# Altium schematic symbol library ASI_CAN_Converter.SCHLIB: 32 symbols
Pins are listed as number, name and electrical type; pins without a type are passive.

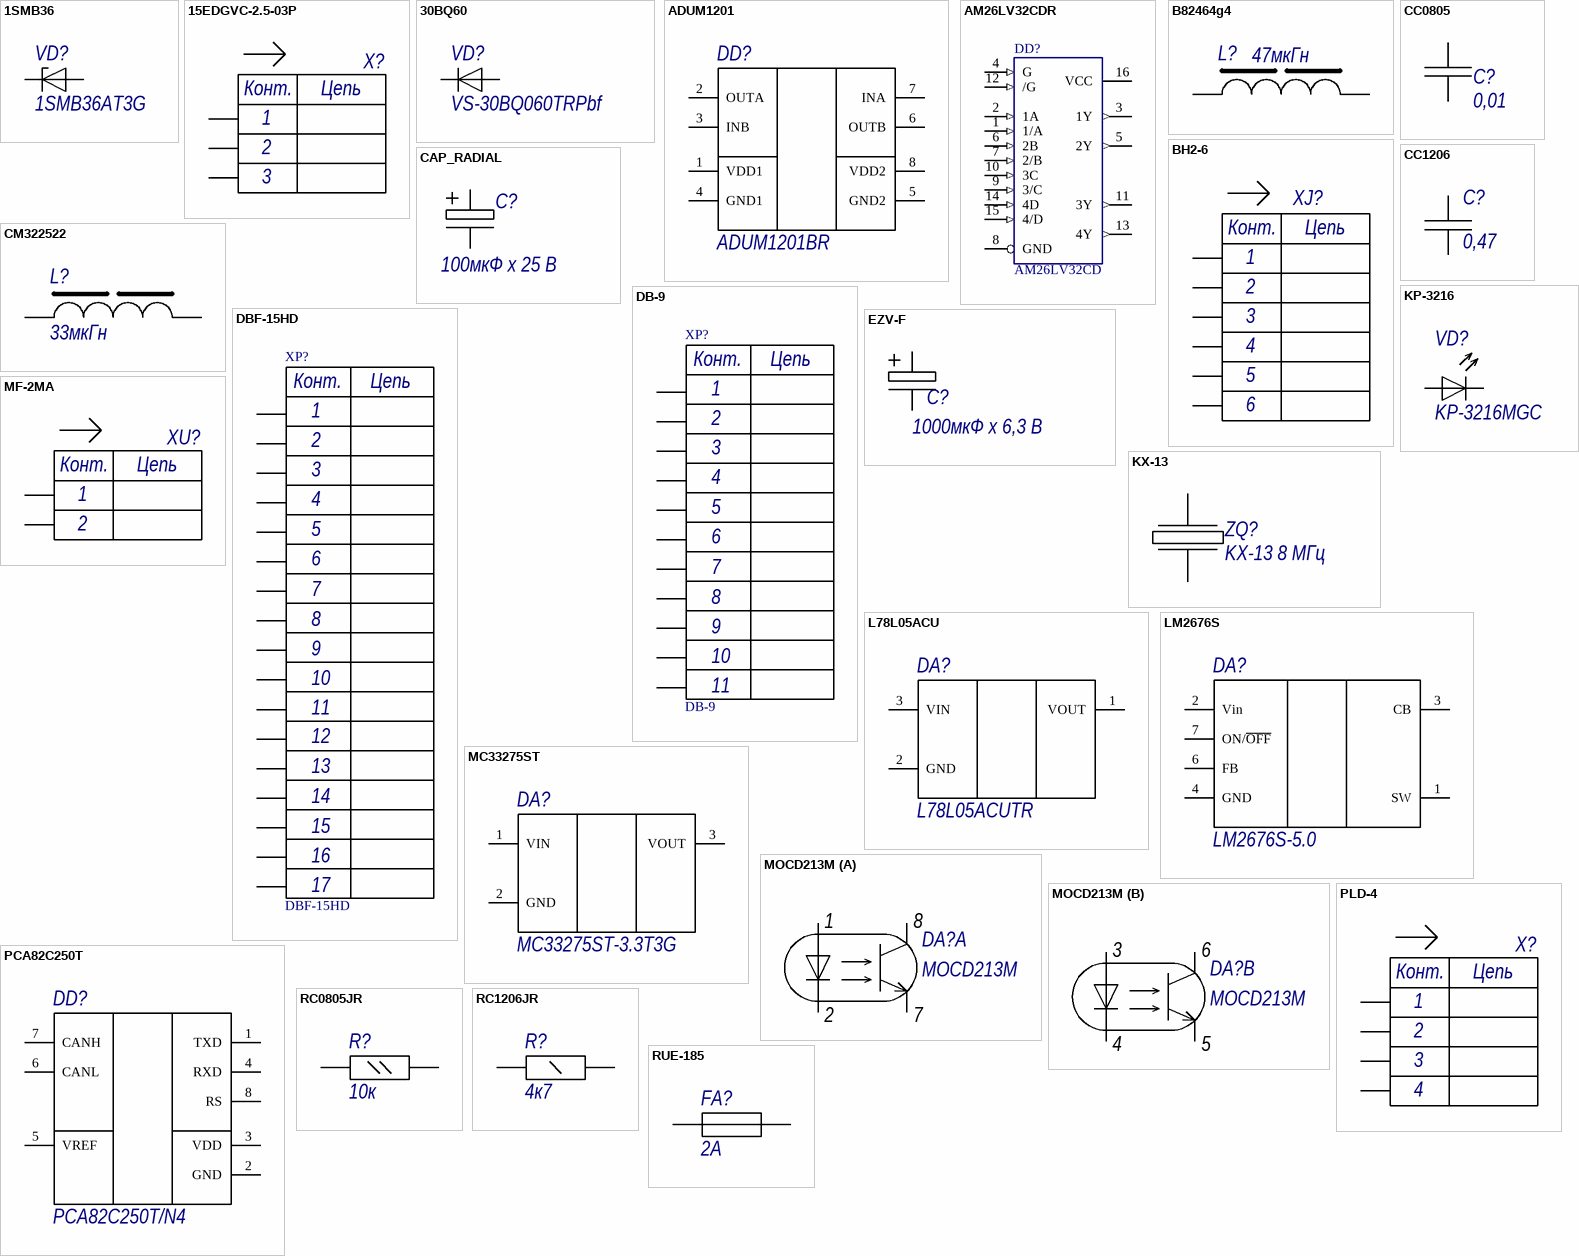
[diagram p0: symbols 1SMB36 to RUE-185]

## 1SMB36
designator VD?, comment 1SMB36AT3G
Диод защитный 600 Вт 36 В; Manufacturer: On Semi.; PackageName: SMB; ComponentType: Стабилитрон; ComponentName: 1SMB36AT3G
footprint SMB
pins: 1 K "Катод", 2 A "Анод"

## 15EDGVC-2.5-03P
designator X?  (value not drawn)
Клеммник разъемный прямой; Manufacturer: DEGSON; ComponentType: Клеммник разъемный; ComponentName: 15EDGVC-2.5-03P
footprint 15EDGVC-2.5-03P
pins: 1, 2, 3
text: Конт.; Цепь

## 30BQ60
designator VD?, comment VS-30BQ060TRPbf
Диод Шотки 60 В 3 А; Manufacturer: Vishay; PackageName: SMC; ComponentType: Диод; ComponentName: VS-30BQ060TRPbf
footprint SMC
pins: 1 K "Катод", 2 A "Анод"

## ADUM1201
designator DD?, comment ADUM1201BR
Изолятор цифрового сигнала; Manufacturer: Analog Dev.; PackageName: SO-8; ComponentType: Микросхема; ComponentName: ADUM1201BR
footprint SO-8
pins: 1 VDD1, 2 OUTA, 3 INB, 4 GND1, 5 GND2, 6 OUTB, 7 INA, 8 VDD2

## AM26LV32CDR
designator DD?, comment AM26LV32CD
=ComponentName; ComponentName: AM26LV32CD; ComponentType: Микросхема
footprint SO16_N (SOIC, 16-Leads, Body 9.9x3.9mm, Pitch 1.27mm, IPC Medium Density)
pins: 1 1/A (in), 2 1A (in), 3 1Y (out), 4 G (in), 5 2Y (out), 6 2B (in), 7 2/B (in), 8 GND (power), 9 3/C (in), 10 3C (in), 11 3Y (out), 12 /G (in), 13 4Y (out), 14 4D (in), 15 4/D (in), 16 VCC (power)

## B82464g4
designator L?, comment 47мкГн
Силовой дроссель; Manufacturer: Epcos; ComponentName: B82464-G4473-M; ComponentType: Дроссель; Value: 47мкГн
footprint B82464g4
pins: 1, 2

## BH2-6
designator XJ?  (value not drawn)
Вилка на плату, шаг 2.0мм; ComponentType: Разъем; ComponentName: BH2-6
footprint BH2-6 (Вилка 6 контактов на плату, шаг 2мм)
pins: 1, 2, 3, 4, 5, 6
text: Конт.; Цепь

## CAP_RADIAL
designator C?, comment 100мкФ x 25 В
Выводные электролитические конденсаторы; Manufacturer: HITANO; Accuracy: 20%; CVoltage: 25 В; ComponentName: ECR; ComponentType: Конденсатор электролитический; Value: 100мкФ
footprint C_D5/F2.0_V
footprint C_D6.5/F2.5_V (Конденсатор, диаметр корпуса 6.5мм, межвыводное расстояние 2.5мм, вертикальное положение)
footprint C_D8/F3.5_V
footprint C_D10/F5.0_V
footprint C_D13/F5.0_V (Конденсатор 13х21x5, d=0.6)
pins: 1, 2

## CC0805
designator C?, comment 0,01
Конденсатор; Manufacturer: YAGEO; Accuracy: 10%; CVoltage: 50 В; TC Material: X7R; ComponentName: СС0805; PackageName: 0805; ComponentType: Конденсатор; Value: 0,01
footprint 0805
footprint 0805_A
pins: 1, 2

## CC1206
designator C?, comment 0,47
Manufacturer: YAGEO; Accuracy: 10%; CVoltage: 50 В; TC Material: X7R; ComponentName: СС1206; PackageName: 1206; ComponentType: Конденсатор; Value: 0,47
footprint 1206
footprint 1206_A
pins: 1, 2

## CM322522
designator L?, comment 33мкГн
Manufacturer: Bourns; ComponentName: CM322522-330KL; ComponentType: Дроссель; Value: 33мкГн
footprint CM322522
pins: 1, 2

## DB-9
designator XP?
Connector DB-9; ComponentName: DB-9; ComponentType: Разъём
footprint DB-9M
pins: 1, 2, 3, 4, 5, 6, 7, 8, 9, 10, 11
text: Конт.; Цепь

## DBF-15HD
designator XP?
Connector DBF-15HD; ComponentName: DBF-15HD; ComponentType: Разъём
footprint DBF15 HD
pins: 1, 2, 3, 4, 5, 6, 7, 8, 9, 10, 11, 12, 13, 14, 15, 16, 17
text: Конт.; Цепь

## EZV-F
designator C?, comment 1000мкФ x 6,3 В
Конденсатор электролитический; Manufacturer: HITANO; Accuracy: 20%; CVoltage: 6,3 В; ComponentName: EZV-F; ComponentType: Конденсатор электролитический; Value: 1000мкФ
footprint ELCAP_SIZE_F
pins: 1, 2

## KP-3216
designator VD?, comment KP-3216MGC
Светодиод; Manufacturer: Kingbright; ComponentType: Светодиод; ComponentName: KP-3216MGC
footprint LED3216
pins: 1 A "Анод", 2 K "Катод"

## KX-13
designator ZQ?, comment KX-13 8 МГц
Резонатор кварцевый; Manufacturer: Geyer; ComponentType: Резонатор кварцевый; ComponentName: KX-13 8 МГц
footprint KX-13; pin to pad 2>3
pins: 1, 2

## L78L05ACU
designator DA?, comment L78L05ACUTR
Линейный стабилизатор напряжения; Manufacturer: STM; PackageName: SOT-89; ComponentType: Микросхема; ComponentName: L78L05ACUTR
footprint SOT-89
pins: 1 VOUT, 2 GND, 3 VIN

## LM2676S
designator DA?, comment LM2676S-5.0
понижающи регулятор 3 А; Manufacturer: Texas Instr.; PackageName: DDPAK; ComponentType: Микросхема; ComponentName: LM2676S-5.0
footprint DDPAK
pins: 1 SW, 2 Vin, 3 CB, 4 GND, 6 FB, 7 ON/~{OFF}

## MC33275ST
designator DA?, comment MC33275ST-3.3T3G
Линейный стабилизатор напряжения; Manufacturer: ON Semi.; PackageName: SOT-223; ComponentType: Микросхема; ComponentName: MC33275ST-3.3T3G
footprint SOT-223_2
pins: 1 VIN, 2 GND, 3 VOUT

## MF-2MA
designator XU?  (value not drawn)
Разъем, Mini-Fit; ComponentType: Разъем; ComponentName: MF-2MA
footprint MF-2MA
pins: 1, 2
text: Конт.; Цепь

## MOCD213M
designator DA?
Оптопара 2 канала; Manufacturer: Fairchild; PackageName: SO-8; ComponentType: Микросхема; ComponentName: MOCD213M
footprint SO-8
part A pins: 1 ANODE1 "Анод", 2 CATHODE1 "Катод", 7 E1 "Эмиттер", 8 C1 "Коллектор"
part B pins: 3 ANODE2 "Анод", 4 CATHODE2 "Катод", 5 E2 "Эмиттер", 6 C2 "Коллектор"

## PCA82C250T
designator DD?, comment PCA82C250T/N4
Интерфейс физического уровня CAN; Manufacturer: NXP; PackageName: SO-8; ComponentType: Микросхема; ComponentName: PCA82C250T/N4
footprint SO-8
pins: 1 TXD, 2 GND, 3 VDD, 4 RXD, 5 VREF, 6 CANL, 7 CANH, 8 RS

## PLD-4
designator X?  (value not drawn)
Разъем, вилка на плату двухрядная, шаг 2.54мм; ComponentType: Разъем; ComponentName: PLD-4
footprint PLD-4 (Разъем)
pins: 1, 2, 3, 4
text: Конт.; Цепь

## RC0805JR
designator R?, comment 10к
Резистор общего назначения 5%; Manufacturer: YAGEO; ComponentName: RC0805JR; PackageName: 0805; ComponentType: Резистор; Accuracy: 5%; Value: 10к
footprint 0805
footprint 0805_A
pins: 1, 2

## RC1206JR
designator R?, comment 4к7
Резистор общего назначения 5%; Manufacturer: YAGEO; ComponentName: RC1206JR; PackageName: 1206; ComponentType: Резистор; Accuracy: 5%; Value: 4к7
footprint 1206
footprint 1206_A
pins: 1, 2

## RUE-185
designator FA?, comment 2А
Предохранитель 3,7 А 30 В; Manufacturer: Tyco; ComponentName: RUEF185; ComponentType: Предохранитель; Value: 2А
footprint RUE-185
pins: 1, 2

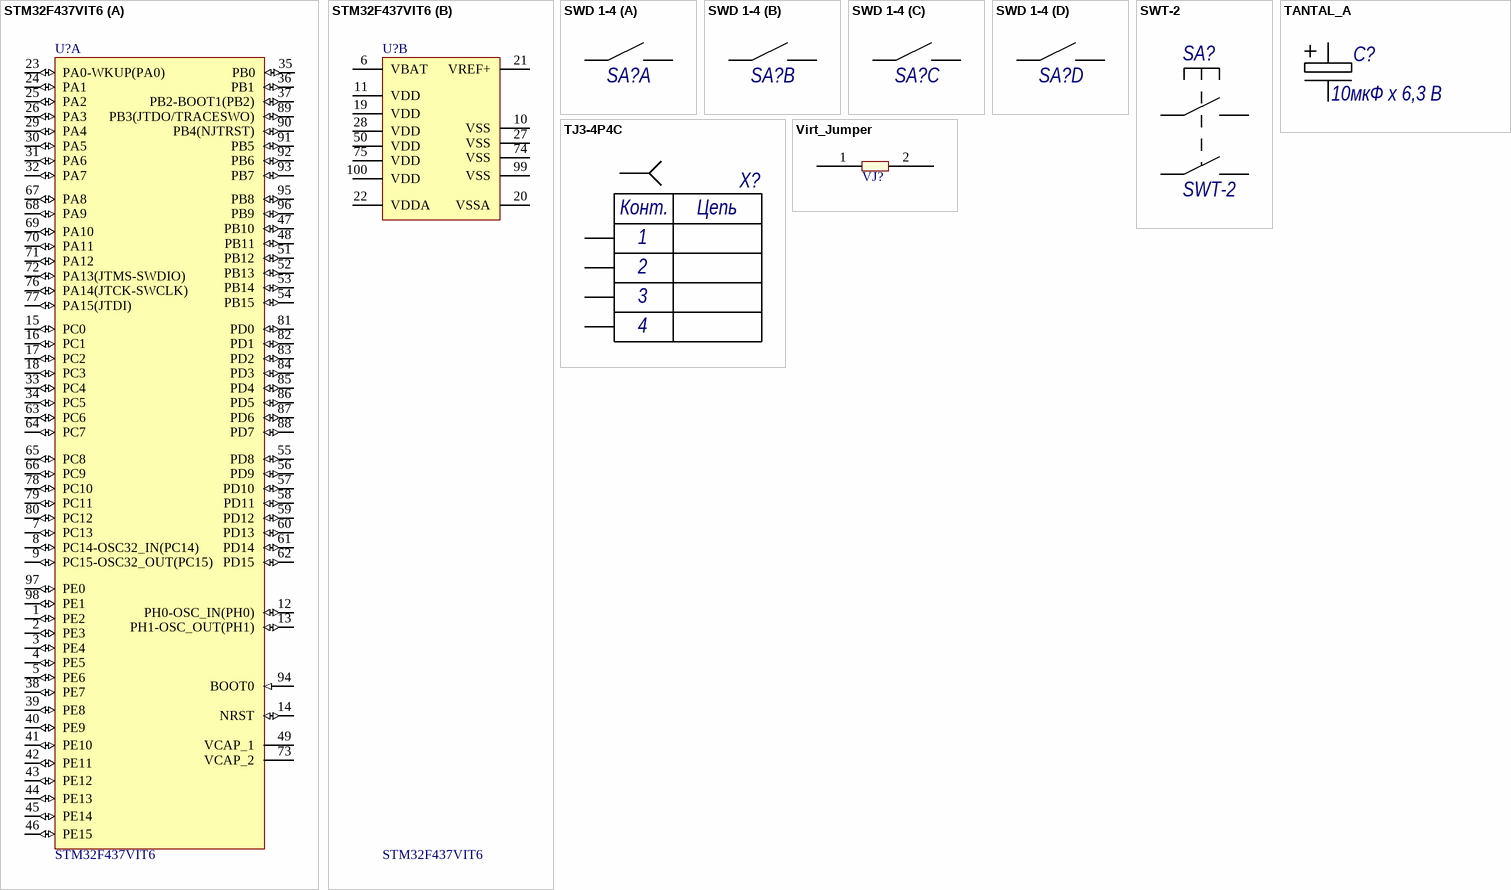
[diagram p1: symbols STM32F437VIT6 to Virt_Jumper]

## STM32F437VIT6
designator U?
=ComponentName; Manufacturer: STMicroelectronics; Core: ARM Cortex-M4; D/A Converter: 2x12-bit; FLASH Size (Prog) (kB): 2048; I/Os (High Current): 82; Internal RAM Size (kB): 256; Operating Frequency(F) (Processor speed) (MHz): 168; Packing: Tray; Supply Voltage(Vcc) max (V): 3.6; Supply Voltage(Vcc) min (V): 1.8; DatasheetVersion: Rev. 1; PackageVersion: Rev. 1, 06/2013; PackageReference: LQFP100; PackageDescription: 100-Pin Low Profile Quad Flat Package, 14 x 14 mm Body, 0.5 mm Pitch; Supplier 1: Digi-Key; Supplier Part Number 1: STM32F437VIT6-ND; Supplier 2: Farnell; Supplier Part Number 2: 2333377; Supplier 3: Newark; Supplier Part Number 3: 99W9934; Supplier 4: Newark; Supplier Part Number 4: 66W7318; Supplier 5: Mouser; Supplier Part Number 5: 511-STM32F437VIT6; Mounting Technology: Surface Mount; PartNumber: STM32F437VIT6; ComponentLink1Description: Manufacturer URL; ComponentLink1URL: http://www.st.com/web/en/home.html; ComponentLink2Description: Datasheet; ComponentLink2URL: http://www.st.com/st-web-ui/static/active/en/resource/technical/document/datasheet/DM00077036.pdf; ComponentLink3Description: Package Specification; ComponentLink3URL: http://www.st.com/st-web-ui/static/active/en/resource/technical/document/data_brief/DM00071938.pdf; ComponentName: STM32F437VIT6
footprint STM-LQFP100_V (Thin QFP, 100-Leads, Body 14x14mm, Pitch 0.5mm, ST Recommended)
part A pins: 1 PE2 (io) "PE2/TRACECLK,FSMC_A23,ETH_MII_TXD3,EVENTOUT,SPI4_SCK", 2 PE3 (io) "PE3/TRACED0,FSMC_A19,EVENTOUT,SPI4_NSS", 3 PE4 (io) "PE4/TRACED1,FSMC_A20,DCMI_D4,EVENTOUT,SPI4_NSS", 4 PE5 (io) "PE5/TRACED2,FSMC_A21,TIM9_CH1,DCMI_D6,EVENTOUT,SPI4_MISO", 5 PE6 (io) "PE6/TRACED3,FSMC_A22,TIM9_CH2,DCMI_D7,EVENTOUT,SPI4_MOSI", 7 PC13 (io) "PC13/EVENTOUT/RTC_OUT,RTC_TAMP1,RTC_TS", 8 PC14-OSC32_IN(PC14) (io) "PC14-OSC32_IN(PC14)/EVENTOUT/OSC32_IN", 9 PC15-OSC32_OUT(PC15) (io) "PC15-OSC32_OUT(PC15)/EVENTOUT/OSC32_OUT", 12 PH0-OSC_IN(PH0) (io) "PH0-OSC_IN(PH0)/EVENTOUT/OSC_IN", 13 PH1-OSC_OUT(PH1) (io) "PH1-OSC_OUT(PH1)/EVENTOUT/OSC_OUT", 14 NRST (io), 15 PC0 (io) "PC0/OTG_HS_ULPI_STP,EVENTOUT/ADC123_IN10", 16 PC1 (io) "PC1/ETH_MDC,EVENTOUT/ADC123_IN11", 17 PC2 (io) "PC2/SPI2_MISO,OTG_HS_ULPI_DIR,ETH_MII_TXD2,I2S2ext_SD,EVENTOUT/ADC123_IN12", 18 PC3 (io) "PC3/SPI2_MOSI/I2S2_SD,OTG_HS_ULPI_NXT,ETH_MII_TX_CLK,EVENTOUT/ADC123_IN13", 23 PA0-WKUP(PA0) (io) "PA0-WKUP(PA0)/USART2_CTS,UART4_TX,ETH_MII_CRS,TIM2_CH1_ETR,TIM5_CH1,TIM8_ETR,EVENTOUT/ADC123_IN0,WKUP", 24 PA1 (io) "PA1/USART2_RTS,UART4_RX,ETH_RMII_REF_CLK,ETH_MII_RX_CLK,TIM5_CH2,TIMM2_CH2,EVENTOUT/ADC123_IN1", 25 PA2 (io) "PA2/USART2_TX,TIM5_CH3,TIM9_CH1,TIM2_CH3,ETH_MDIO,EVENTOUT/ADC123_IN2", 26 PA3 (io) "PA3/USART2_RX,TIM5_CH4,TIM9_CH2,TIM2_CH4,OTG_HS_ULPI_D0,ETH_MII_COL,EVENTOUT/ADC123_IN3", 29 PA4 (io) "PA4/SPI1_NSS,SPI3_NSS,USART2_CK,DCMI_HSYNC,OTG_HS_SOF,I2S3_WS,EVENTOUT/ADC12_IN4,DAC1_OUT", 30 PA5 (io) "PA5/SPI1_SCK,OTG_HS_ULPI_CK,TIM2_CH1_ETR,TIM8_CH1N,EVENTOUT/ADC12_IN5,DAC2_OUT", 31 PA6 (io) "PA6/SPI1_MISO,TIM8_BKIN,TIM13_CH1,DCMI_PIXCLK,TIM3_CH1,TIM1_BKIN,EVENTOUT/ADC12_IN6", 32 PA7 (io) "PA7/SPI1_MOSI,TIM8_CH1N,TIM14_CH1,TIM3_CH2,ETH_MII_RX_DV,TIM1_CH1N,ETH_RMII_CRS_DV,EVENTOUT/ADC12_IN7", 33 PC4 (io) "PC4/ETH_RMII_RX_D0,ETH_MII_RX_D0,EVENTOUT/ADC12_IN14", 34 PC5 (io) "PC5/ETH_RMII_RX_D1,ETH_MII_RX_D1,EVENTOUT/ADC12_IN15", 35 PB0 (io) "PB0/TIM3_CH3,TIM8_CH2N,OTG_HS_ULPI_D1,ETH_MII_RXD2,TIM1_CH2N,EVENTOUT/ADC12_IN8", 36 PB1 (io) "PB1/TIM3_CH4,TIM8_CH3N,OTG_HS_ULPI_D2,ETH_MII_RXD3,TIM1_CH3N,EVENTOUT/ADC12_IN9", 37 PB2-BOOT1(PB2) (io) "PB2-BOOT1(PB2)/EVENTOUT", 38 PE7 (io) "PE7/FSMC_D4,TIM1_ETR,EVENTOUT,UART7_RX", 39 PE8 (io) "PE8/FSMC_D5,TIM1_CH1N,EVENTOUT,UART7_TX", 40 PE9 (io) "PE9/FSMC_D6,TIM1_CH1,EVENTOUT", 41 PE10 (io) "PE10/FSMC_D7,TIM1_CH2N,EVENTOUT", 42 PE11 (io) "PE11/FSMC_D8,TIM1_CH2,EVENTOUT,SPI4_NSS", 43 PE12 (io) "PE12/FSMC_D9,TIM1_CH3N,EVENTOUT,SPI4_SCK", 44 PE13 (io) "PE13/FSMC_D10,TIM1_CH3,EVENTOUT,SPI4_MISO", 45 PE14 (io) "PE14/FSMC_D11,TIM1_CH4,EVENTOUT,SPI4_MOSI", 46 PE15 (io) "PE15/FSMC_D12,TIM1_BKIN,EVENTOUT", 47 PB10 (io) "PB10/SPI2_SCK/I2S2_CK,I2C2_SCL,USART3_TX,OTG_HS_ULPI_D3,ETH_MII_RX_ER,TIM2_CH3,EVENTOUT", 48 PB11 (io) "PB11/I2C2_SDA,USART3_RX,OTG_HS_ULPI_D4,ETH_RMII_TX_EN,ETH_MII_TX_EN,TIM2_CH4,EVENTOUT", 49 VCAP_1 (power), 51 PB12 (io) "PB12/SPI2_NSS/I2S2_WS,I2C2_SMBA,USART3_CK,TIM1_BKIN,CAN2_RX,OTG_HS_ULPI_D5,ETH_RMII_TXD0,ETH_MII_TXD0,OTG_HS_ID,EVENTOUT", 52 PB13 (io) "PB13/SPI2_SCK/I2S2_CK,USART3_CTS,TIM1_CH1N,CAN2_TX,OTG_HS_ULPI_D6,ETH_RMII_TXD1,ETH_MII_TXD1,EVENTOUT/OTG_HS_VBUS", 53 PB14 (io) "PB14/SPI2_MISO,TIM1_CH2N,TIM12_CH1,OTG_HS_DM,USART3_RTS,TIM8_CH2N,I2S2ext_SD,EVENTOUT", 54 PB15 (io) "PB15/SPI2_MOSI/I2S2_SD,TIM1_CH3N,TIM8_CH3N,TIM12_CH2,OTG_HS_DP,EVENTOUT,RTC_REFIN", 55 PD8 (io) "PD8/FSMC_D13,USART3_TX,EVENTOUT", 56 PD9 (io) "PD9/FSMC_D14,USART3_RX,EVENTOUT", 57 PD10 (io) "PD10/FSMC_D15,USART3_CK,EVENTOUT", 58 PD11 (io) "PD11/FSMC_CLE,FSMC_A16,USART3_CTS,EVENTOUT", 59 PD12 (io) "PD12/FSMC_ALE,FSMC_A17,TIM4_CH1,USART3_RTS,EVENTOUT", 60 PD13 (io) "PD13/FSMC_A18,TIM4_CH2,EVENTOUT", 61 PD14 (io) "PD14/FSMC_D0,TIM4_CH3,EVENTOUT", 62 PD15 (io) "PD15/FSMC_D1,TIM4_CH4,EVENTOUT", 63 PC6 (io) "PC6/I2S2_MCK,TIM8_CH1,SDIO_D6,USART6_TX,DCMI_D0,TIM3_CH1,EVENTOUT", 64 PC7 (io) "PC7/I2S3_MCK,TIM8_CH2,SDIO_D7,USART6_RX,DCMI_D1,TIM3_CH2,EVENTOUT", 65 PC8 (io) "PC8/TIM8_CH3,SDIO_D0,TIM3_CH3,USART6_CK,DCMI_D2,EVENTOUT", 66 PC9 (io) "PC9/I2S_CKIN,MCO2,TIM8_CH4,SDIO_D1,I2C3_SDA,DCMI_D3,TIM3_CH4,EVENTOUT", 67 PA8 (io) "PA8/MCO1,USART1_CK,TIM1_CH1,I2C3_SCL,OTG_FS_SOF,EVENTOUT", 68 PA9 (io) "PA9/USART1_TX,TIM1_CH2,I2C3_SMBA,DCMI_D0,EVENTOUT/OTG_FS_VBUS", 69 PA10 (io) "PA10/USART1_RX,TIM1_CH3,OTG_FS_ID,DCMI_D1,EVENTOUT", 70 PA11 (io) "PA11/USART1_CTS,CAN1_RX,TIM1_CH4,OTG_FS_DM,EVENTOUT", 71 PA12 (io) "PA12/USART1_RTS,CAN1_TX,TIM1_ETR,OTG_FS_DP,EVENTOUT", 72 PA13(JTMS-SWDIO) (io) "PA13(JTMS-SWDIO)/JTMS-SWDIO,EVENTOUT", 73 VCAP_2 (power), 76 PA14(JTCK-SWCLK) (io) "PA14(JTCK-SWCLK)/JTCK-SWCLK,EVENTOUT", 77 PA15(JTDI) (io) "PA15(JTDI)/JTDI,SPI3_NSS,I2S3_WS,TIM2_CH1_ETR,SPI1_NSS,EVENTOUT", 78 PC10 (io) "PC10/SPI3_SCK/I2S3_CK,UART4_TX,SDIO_D2,DCMI_D8,USART3_TX,EVENTOUT", 79 PC11 (io) "PC11/UART4_RX,SPI3_MISO,SDIO_D3,DCMI_D4,USART3_RX,I2S3ext_SD,EVENTOUT", 80 PC12 (io) "PC12/UART5_TX,SDIO_CK,DCMI_D9,SPI3_MOSI,I2S3_SD,USART3_CK,EVENTOUT", 81 PD0 (io) "PD0/FSMC_D2,CAN1_RX,EVENTOUT", 82 PD1 (io) "PD1/FSMC_D3,CAN1_TX,EVENTOUT", 83 PD2 (io) "PD2/TIM3_ETR,UART5_RX,SDIO_CMD,DCMI_D11,EVENTOUT", 84 PD3 (io) "PD3/FSMC_CLK,USART2_CTS,EVENTOUT,SPI2_SCK,I2S2_CK,DCMI_D5", 85 PD4 (io) "PD4/FSMC_NOE,USART2_RTS,EVENTOUT", 86 PD5 (io) "PD5/FSMC_NWE,USART2_TX,EVENTOUT", 87 PD6 (io) "PD6/FSMC_NWAIT,USART2_RX,EVENTOUT,SPI3_MOSI,I2S3_MOSI,DCMI_D10", 88 PD7 (io) "PD7/USART2_CK,FSMC_NE1,FSMC_NCE2,EVENTOUT", 89 PB3(JTDO/TRACESWO) (io) "PB3(JTDO/TRACESWO)/JTDO/TRACESWO,SPI3_SCK/I2S3_CK,TIM2_CH2,SPI1_SCK,EVENTOUT", 90 PB4(NJTRST) (io) "PB4(NJTRST)/NJTRST,SPI3_MISO,TIM3_CH1,SPI1_MISO,I2S3ext_SD,EVENTOUT", 91 PB5 (io) "PB5/I2C1_SMBA,CAN2_RX,OTG_HS_ULPI_D7,ETH_PPS_OUT,TIM3_CH2,SPI1_MOSI,SPI3_MOSI,DCMI_D10,I2S3_SD,EVENTOUT", 92 PB6 (io) "PB6/I2C1_SCL,TIM4_CH1,CAN2_TX,DCMI_D5,USART1_TX,EVENTOUT", 93 PB7 (io) "PB7/I2C1_SDA,FSMC_NL(NADV),DCMI_VSYNC,USART1_RX,TIM4_CH2,EVENTOUT", 94 BOOT0 (in) "BOOT0/VPP", 95 PB8 (io) "PB8/TIM4_CH3,SDIO_D4,TIM10_CH1,DCMI_D6,ETH_MII_TXD3,I2C1_SCL,CAN1_RX,EVENTOUT", 96 PB9 (io) "PB9/SPI2_NSS/I2S2_WS,TIM4_CH4,TIM11_CH1,SDIO_D5,DCMI_D7,I2C1_SDA,CAN1_TX,EVENTOUT", 97 PE0 (io) "PE0/TIM4_ETR,FSMC_NBL0,DCMI_D2,EVENTOUT,UART8_RX", 98 PE1 (io) "PE1/FSMC_NBL1,DCMI_D3,EVENTOUT,UART8_TX"
part B pins: 6 VBAT (power), 10 VSS (power), 11 VDD (power), 19 VDD (power), 20 VSSA (power), 21 VREF+ (power), 22 VDDA (power), 27 VSS (power), 28 VDD (power), 50 VDD (power), 74 VSS (power), 75 VDD (power), 99 VSS (power), 100 VDD (power)

## SWD 1-4
designator SA?  (value not drawn)
DIP переключатель; ComponentType: Переключатель; ComponentName: SWD 1-4
footprint SWD 1-4 (DIP переключатель)
part A pins: 1, 2
part B pins: 3, 4
part C pins: 5, 6
part D pins: 7, 8

## SWT-2
designator SA?
ComponentType: Кнопка тактовая; ComponentName: SWT-2
footprint SWT-2 (Кнопка тактовая)
pins: 1, 2, 3, 4

## TANTAL_A
designator C?, comment 10мкФ x 6,3 В
Manufacturer: Vishay; Accuracy: 20%; CVoltage: 6,3 В; ComponentName: 293D; PackageName: Тип A; ComponentType: Конденсатор электролитический танталовый; Value: 10мкФ
footprint CAP_TYPE_A
pins: 1, 2

## TJ3-4P4C
designator X?  (value not drawn)
Разъем, гнездо на плату, прямой; ComponentType: Разъем; ComponentName: TJ3-4P4C
footprint TJ3-4P4C (Гнездо на плату, прямое)
pins: 1, 2, 3, 4
text: Конт.; Цепь

## Virt_Jumper
designator VJ?, comment Virtual Jumper  (value not drawn)  (net tie, no BOM)
ComponentName: Virtual Jumper
footprint Virtual Jumper
pins: 1, 2